# EAGLE library part HM-13 (library HM-13)
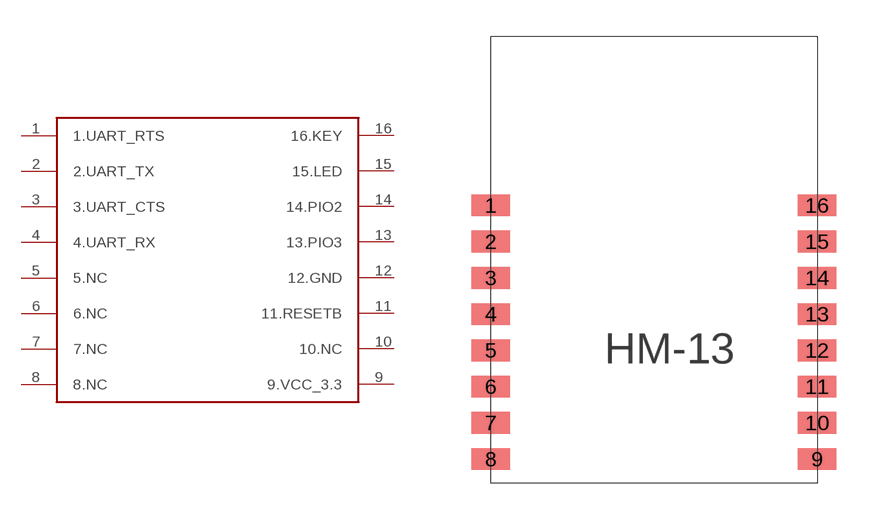
[diagram p0: symbol with the pads of HM-13; footprint HM-13]

Designator prefix -

## HM-13  [HM-13]
1  1.UART_RTS
2  2.UART_TX
3  3.UART_CTS
4  4.UART_RX
5  5.NC
6  6.NC
7  7.NC
8  8.NC
9  9.VCC_3.3
10  10.NC
11  11.RESETB
12  12.GND
13  13.PIO3
14  14.PIO2
15  15.LED
16  16.KEY

## Footprint HM-13 (pad centres in mm)
smd 1.6 x 0.9: 1 0,11.5; 2 0,10; 3 0,8.5; 4 0,7; 5 0,5.5; 6 0,4; 7 0,2.5; 8 0,1; 9 13.5,1; 10 13.5,2.5; 11 13.5,4; 12 13.5,5.5; 13 13.5,7; 14 13.5,8.5; 15 13.5,10; 16 13.5,11.5